# EAGLE library part TPS6050X (library Tari)
High-efficiency charge-pump voltage regulator. Adjustable (TPS60500), 3.3, 1.8 or 1.5 (TPS60501-3) volt output, providing up to 150 mA output current with 1.8-6.5V input.
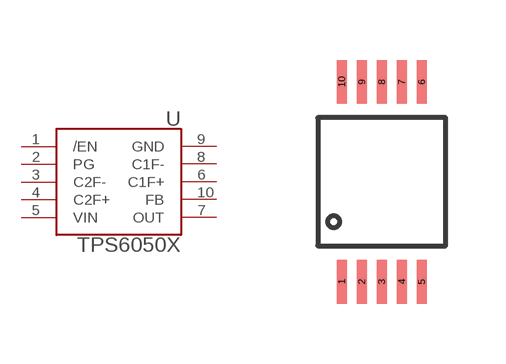
[diagram p6: symbol with the pads of DGS-S-PDSO-G10; footprint DGS-S-PDSO-G10]

Designator prefix U

## TPS6050X  [DGS-S-PDSO-G10]
1  /EN
2  PG
3  C2F-
4  C2F+
5  VIN
6  C1F+
7  OUT
8  C1F-
9  GND  pwr
10  FB

## Footprint DGS-S-PDSO-G10 (pad centres in mm)
TI MSOP-10
smd 0.25 x 1.1: 1 -1,-2.5; 2 -0.5,-2.5; 3 0,-2.5; 4 0.5,-2.5; 5 1,-2.5; 6 1,2.5; 7 0.5,2.5; 8 0,2.5; 9 -0.5,2.5; 10 -1,2.5